# EAGLE library part USB4085-GF-A (library ruark2)
USB - C USB 2.0 Receptacle Connector 16 Position Through Hole, Right Angle
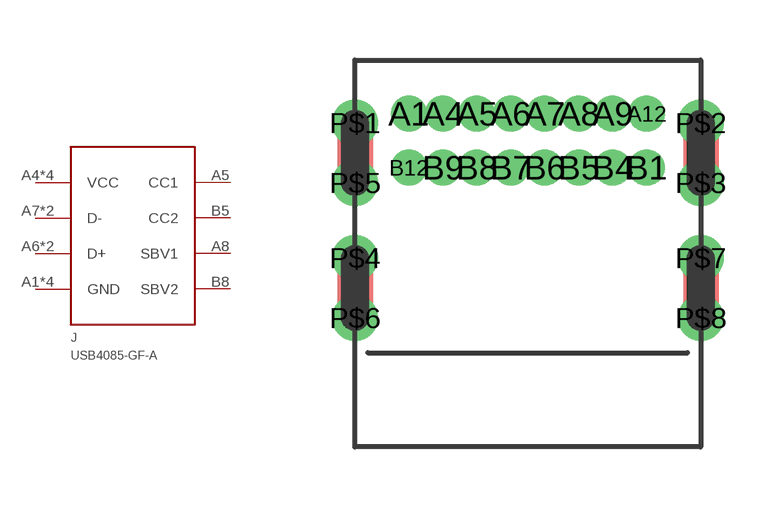
[diagram p76: symbol with the pads of USBC; footprint USBC]

Designator prefix J

## USB4085-GF-A (PARTNO: 2073-USB4085-GF-ACT-ND)  [USBC]
A1  GND
A4  VCC
A5  CC1
A6  D+
A7  D-
A8  SBV1
A9  VCC
A12  GND
B1  GND
B4  VCC
B5  CC2
B6  D+
B7  D-
B8  SBV2
B9  VCC
B12  GND

## Footprint USBC (pad centres in mm)
drill 0.4 pad 0.65: A1 -2.975,0.98; A4 -2.125,0.98; A5 -1.275,0.98; A6 -0.425,0.98; A7 0.425,0.98; A8 1.275,0.98; A9 2.125,0.98; A12 2.975,0.98; B1 2.975,-0.37; B4 2.125,-0.37; B5 1.275,-0.37; B6 0.425,-0.37; B7 -0.425,-0.37; B8 -1.275,-0.37; B9 -2.125,-0.37; B12 -2.975,-0.37
drill 0.65 pad 0.9: P$1 -4.325,0.75; P$2 4.325,0.75; P$3 4.325,-0.75; P$4 -4.325,-2.63; P$5 -4.325,-0.75; P$6 -4.325,-4.13; P$7 4.325,-2.63; P$8 4.325,-4.13